# Altium schematic symbol library Power Connector.SchLib: 2 symbols
Pins are listed as number, name and electrical type; pins without a type are passive.

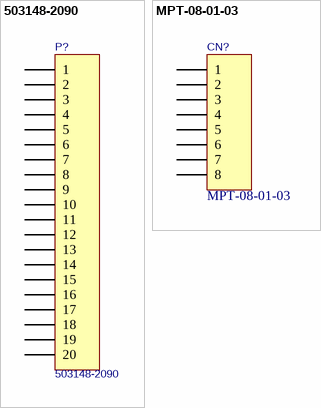
[diagram p0: symbols 503148-2090 to MPT-08-01-03]

## 503148-2090
designator P?
1.50mm Pitch, CLIK-Mate PCB Receptacle, Dual Row, Surface Mount, Right-Angle, Tin Plating, Positive Lock, 20 Circuits, Natural; LatestRevisionDate: 17-Jul-2002; LatestRevisionNote: Re-released for DXP Platform.; Publisher: Altium Limited; Value: 503148-2090; Full Part Number: 503148-2090
footprint 503148-2090
pins: 1, 2, 3, 4, 5, 6, 7, 8, 9, 10, 11, 12, 13, 14, 15, 16, 17, 18, 19, 20

## MPT-08-01-03
designator CN?
Header, 8-Pin; LatestRevisionDate: 17-Jul-2002; LatestRevisionNote: Re-released for DXP Platform.; Publisher: Altium Limited; Value: MPT-08-01-03; Full Part Number: MPT-08-01-03
footprint MPT-08-01-XX-X-RA-SD
pins: 1, 2, 3, 4, 5, 6, 7, 8